# EAGLE library part AP2960 (library nickZhang)
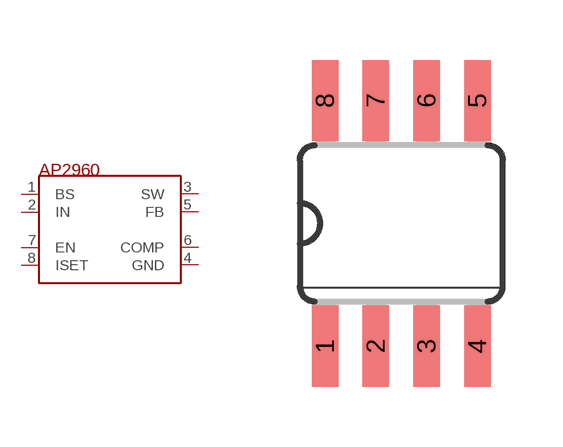
[diagram p3: symbol with the pads of SO08; footprint SO08]

Designator prefix -

## AP2960  [SO08]
1  BS
2  IN
3  SW
4  GND  in
5  FB
6  COMP
7  EN
8  ISET

## Footprint SO08 (pad centres in mm)
Small Outline package 150 mil
smd 0.66 x 2.032: 1 -1.905,-3.073; 2 -0.635,-3.073; 3 0.635,-3.073; 4 1.905,-3.073; 5 1.905,3.073; 6 0.635,3.073; 7 -0.635,3.073; 8 -1.905,3.073